# Altium footprint library ENC.PcbLib: 1 footprints
Each footprint in its own frame and in the unit in brackets; x right, y up, seen from the top. Pads: shape width x height; smd on the part's side, far side on the other; paste and mask are expansions set on the pad; w line width, h text height; cw(c..) or ccw(c..) is an arc to the next point about the centre after c.
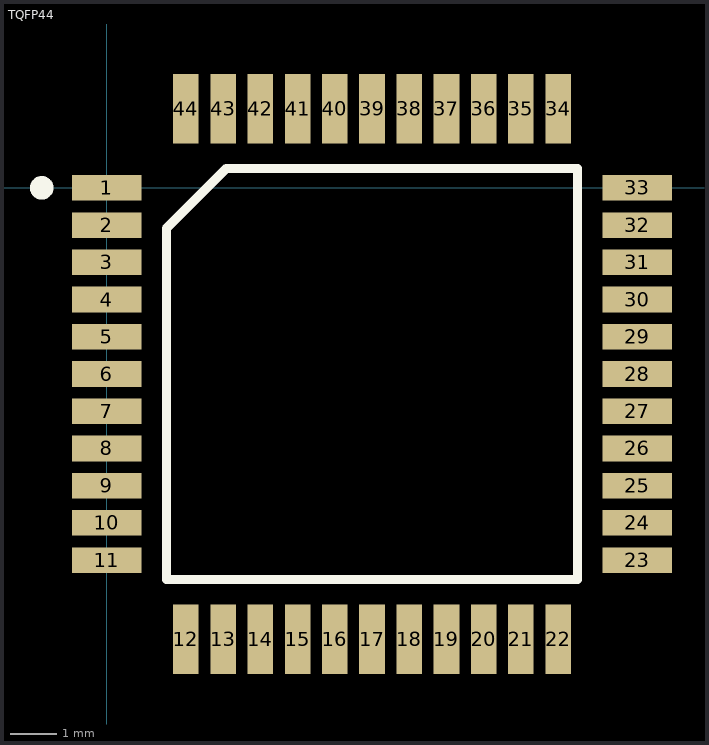
[diagram p0: the footprint, top view; thin cyan lines are the x and y axes]

## TQFP44 [mm]
pads (44):
  rect 1.5x0.55 smd: 1(0,0) 2(0,-0.8) 3(0,-1.6) 4(0,-2.4) 5(0,-3.2) 6(0,-4) 7(0,-4.8) 8(0,-5.6) 9(0,-6.4) 10(0,-7.2) 11(0,-8) 23(11.4,-8) 24(11.4,-7.2) 25(11.4,-6.4) 26(11.4,-5.6) 27(11.4,-4.8) 28(11.4,-4) 29(11.4,-3.2) 30(11.4,-2.4) 31(11.4,-1.6) 32(11.4,-0.8) 33(11.4,0)
  rect 0.55x1.5 smd: 12(1.7,-9.7) 13(2.5,-9.7) 14(3.3,-9.7) 15(4.1,-9.7) 16(4.9,-9.7) 17(5.7,-9.7) 18(6.5,-9.7) 19(7.3,-9.7) 20(8.1,-9.7) 21(8.9,-9.7) 22(9.7,-9.7) 34(9.7,1.7) 35(8.9,1.7) 36(8.1,1.7) 37(7.3,1.7) 38(6.5,1.7) 39(5.7,1.7) 40(4.9,1.7) 41(4.1,1.7) 42(3.3,1.7) 43(2.5,1.7) 44(1.7,1.7)
Top Overlay:
  circle w0.254: c-1.397,0 r0.127
  lines w0.2: 1.285,-8.415 1.285,-0.87 2.57,0.415 10.115,0.415 10.115,-8.415 1.285,-8.415
3D body: height 0.25, standoff 0, extent 1.512,1 1.887,2
3D body: height 0.25, standoff 0, extent 2.312,1 2.688,2
3D body: height 0.25, standoff 0, extent 3.113,1 3.488,2
3D body: height 0.25, standoff 0, extent 3.913,1 4.288,2
3D body: height 0.25, standoff 0, extent 4.713,1 5.088,2
3D body: height 0.25, standoff 0, extent 5.513,1 5.888,2
3D body: height 0.25, standoff 0, extent 6.313,1 6.688,2
3D body: height 0.25, standoff 0, extent 7.113,1 7.488,2
3D body: height 0.25, standoff 0, extent 7.913,1 8.288,2
3D body: height 0.25, standoff 0, extent 8.713,1 9.088,2
3D body: height 0.25, standoff 0, extent 9.513,1 9.888,2
3D body: height 0.25, standoff 0, extent 10.7,-0.188 11.7,0.188
3D body: height 0.25, standoff 0, extent 10.7,-0.988 11.7,-0.613
3D body: height 0.25, standoff 0, extent 10.7,-1.788 11.7,-1.413
3D body: height 0.25, standoff 0, extent 10.7,-2.588 11.7,-2.213
3D body: height 0.25, standoff 0, extent 10.7,-3.388 11.7,-3.013
3D body: height 0.25, standoff 0, extent 10.7,-4.188 11.7,-3.813
3D body: height 0.25, standoff 0, extent 10.7,-4.988 11.7,-4.613
3D body: height 0.25, standoff 0, extent 10.7,-5.788 11.7,-5.413
3D body: height 0.25, standoff 0, extent 10.7,-6.588 11.7,-6.213
3D body: height 0.25, standoff 0, extent 10.7,-7.388 11.7,-7.013
3D body: height 0.25, standoff 0, extent 10.7,-8.188 11.7,-7.813
3D body: height 0.25, standoff 0, extent 9.513,-10 9.888,-9
3D body: height 0.25, standoff 0, extent 8.713,-10 9.088,-9
3D body: height 0.25, standoff 0, extent 7.913,-10 8.288,-9
3D body: height 0.25, standoff 0, extent 7.113,-10 7.488,-9
3D body: height 0.25, standoff 0, extent 6.313,-10 6.688,-9
3D body: height 0.25, standoff 0, extent 5.513,-10 5.888,-9
3D body: height 0.25, standoff 0, extent 4.713,-10 5.088,-9
3D body: height 0.25, standoff 0, extent 3.913,-10 4.288,-9
3D body: height 0.25, standoff 0, extent 3.113,-10 3.488,-9
3D body: height 0.25, standoff 0, extent 2.312,-10 2.688,-9
3D body: height 0.25, standoff 0, extent 1.512,-10 1.887,-9
3D body: height 0.25, standoff 0, extent -0.3,-8.188 0.7,-7.813
3D body: height 0.25, standoff 0, extent -0.3,-7.388 0.7,-7.013
3D body: height 0.25, standoff 0, extent -0.3,-6.588 0.7,-6.213
3D body: height 0.25, standoff 0, extent -0.3,-5.788 0.7,-5.413
3D body: height 0.25, standoff 0, extent -0.3,-4.988 0.7,-4.613
3D body: height 0.25, standoff 0, extent -0.3,-4.188 0.7,-3.813
3D body: height 0.25, standoff 0, extent -0.3,-3.388 0.7,-3.013
3D body: height 0.25, standoff 0, extent -0.3,-2.588 0.7,-2.213
3D body: height 0.25, standoff 0, extent -0.3,-1.788 0.7,-1.413
3D body: height 0.25, standoff 0, extent -0.3,-0.988 0.7,-0.613
3D body: height 1, standoff 0, extent 0.7,-9 10.7,1
3D body: height 0.25, standoff 0, extent -0.3,-0.188 0.7,0.188